# Altium footprint library RF_Misc.PcbLib: 8 footprints
Each footprint in its own frame and in the unit in brackets; x right, y up, seen from the top. Pads: shape width x height; smd on the part's side, far side on the other; paste and mask are expansions set on the pad; w line width, h text height; cw(c..) or ccw(c..) is an arc to the next point about the centre after c.
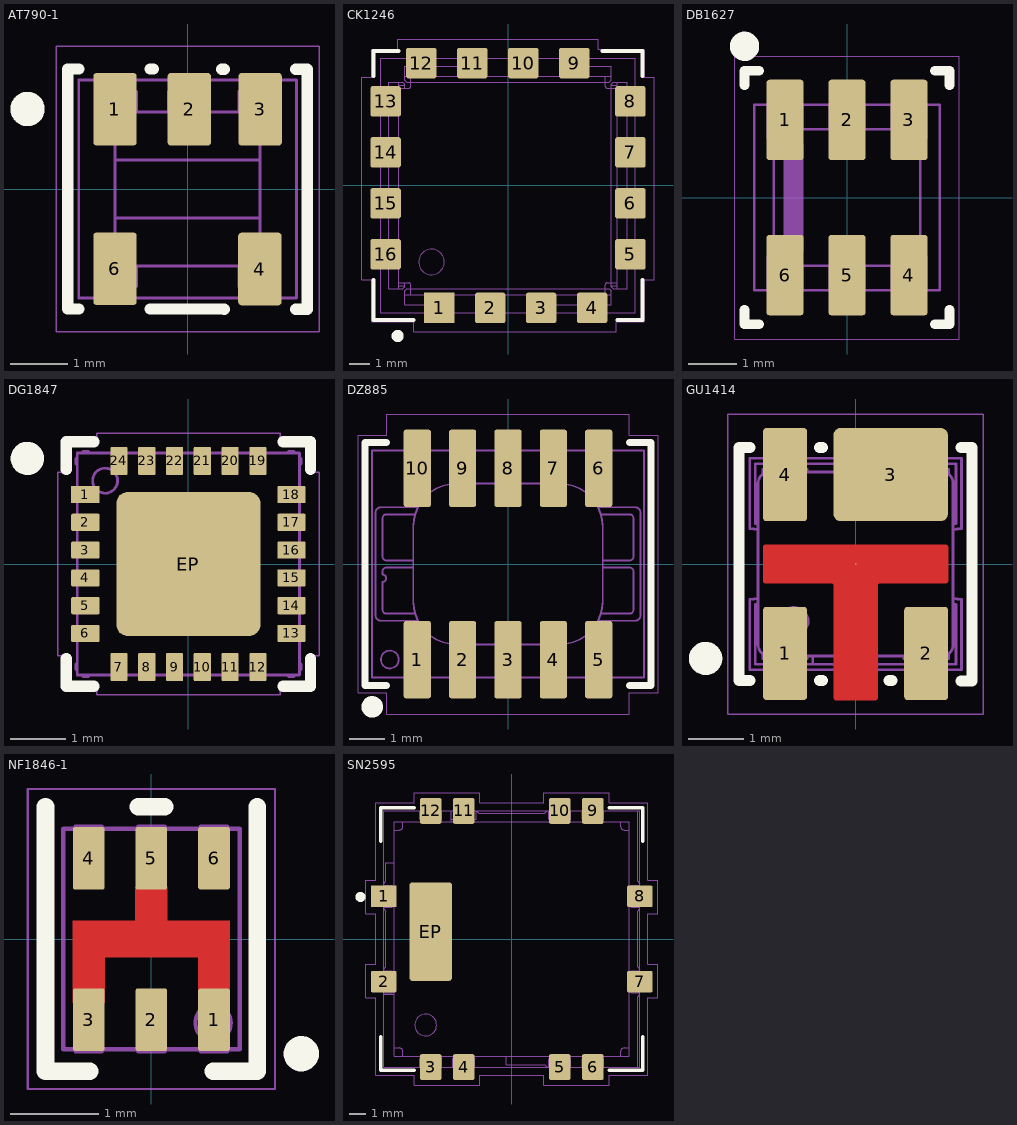
[diagram p0: the footprints below, top view; thin cyan lines are the x and y axes]

## AT790-1 [mm] "Minicircuits AT790-1 case style"
pads (5):
  rrect15% 0.76x1.27 smd mask+0.05: 1(-1.27,1.395) 2(0.03,1.395) 3(1.27,1.395) 4(1.265,-1.4) 6(-1.27,-1.395)
Top Overlay:
  circle w0.3: c-2.8,1.4 r0.15
  lines w0.2: -1.9,-2.1 -2.1,-2.1 -2.1,2.1 -1.9,2.1 ; -0.65,-2.1 0.645,-2.105 ; -0.65,2.1 -0.6,2.1 ; 0.595,2.095 0.645,2.095 ; 1.895,-2.105 2.095,-2.105 2.095,2.095 1.895,2.095
Top Courtyard:
  lines w0.025: -2.3,-2.5 -2.3,2.5 2.3,2.5 2.3,-2.5 -2.3,-2.5
Top Assembly:
  lines w0.05: -1.27,-1.145 -1.605,-1.145 -1.605,-1.705 -0.895,-1.705 -0.895,-1.35 ; -1.27,1.145 -1.605,1.145 -1.605,1.705 -0.895,1.705 -0.895,1.35 ; -0.335,1.35 -0.335,1.705 0.375,1.705 0.375,1.35 ; 0.895,-1.35 0.895,-1.705 1.605,-1.705 1.605,-1.145 1.27,-1.145 ; 0.895,1.35 0.895,1.705 1.605,1.705 1.605,1.145 1.27,1.145 ; -1.27,-0.51 -1.27,-1.35 1.27,-1.35 1.27,-0.51 ; -1.27,-0.51 1.27,-0.51 ; -1.27,-0.51 -1.27,0.51 ; -1.27,0.51 -1.27,1.35 1.27,1.35 1.27,0.51 ; -1.27,0.51 1.27,0.51 ; 1.27,-0.51 1.27,0.51 ; -1.905,-1.905 1.905,-1.905 1.905,1.905 -1.905,1.905 -1.905,-1.905
  text ".Designator" at -3.378,-0.339 h1.5
3D body "AT790-1.x_t": height 3.81, standoff -0.02, extent -1.905,-1.905 1.905,1.905

## CK1246 [mm] "Minicircuits CK1246 case style"
height 4.57
pads (16):
  rect 1.52x1.52 smd mask+0.05: 1(-3.43,-6.1)
  rrect15% 1.52x1.52 smd mask+0.05: 2(-0.89,-6.1) 3(1.65,-6.1) 4(4.19,-6.1) 5(6.1,-3.43) 6(6.1,-0.89) 7(6.1,1.65) 8(6.1,4.19) 9(3.3,6.1) 10(0.76,6.1) 11(-1.78,6.1) 12(-4.32,6.1) 13(-6.1,4.19) 14(-6.1,1.65) 15(-6.1,-0.89) 16(-6.1,-3.43)
Top Overlay:
  circle w0.3: c-5.5,-7.5 r0.15
  lines w0.2: -6.7,-4.7 -6.7,-6.7 -4.7,-6.7 ; -6.7,5.45 -6.7,6.7 -5.45,6.7 ; 4.7,6.7 6.7,6.7 6.7,5.45 ; 5.45,-6.7 6.7,-6.7 6.7,-4.7
Top Courtyard:
  lines w0.025: -7.3,-4.7 -6.8,-4.7 -6.8,-6.8 -4.7,-6.8 -4.7,-7.3 5.4,-7.3 5.4,-6.8 6.8,-6.8 6.8,-4.7 7.3,-4.7 7.3,5.4 6.8,5.4 6.8,6.8 4.5,6.8 4.5,7.3 -5.5,7.3 -5.5,6.8 -6.8,6.8 -6.8,5.4 -7.3,5.4 -7.3,-4.7
Top Assembly:
  circle w0.013: c-3.81,-3.81 r0.635
  lines w0.013: -5.95,-3.93 -6.35,-3.93 ; -5.95,-2.93 -6.35,-2.93 ; -5.95,-1.39 -6.35,-1.39 ; -5.95,-0.39 -6.35,-0.39 ; -5.95,1.15 -6.35,1.15 ; -5.95,2.15 -6.35,2.15 ; -5.95,3.69 -6.35,3.69 ; -5.95,4.69 -6.35,4.69 ; -5.45,-5.15 -5.45,5.15 ; -5.45,-5 -5.15,-5 ; -5.45,-4.85 -4.95,-4.85 cw(c-4.95,-4.95) -4.85,-4.95 -4.85,-5.45 ; -5.45,4.85 -4.95,4.85 ccw(c-4.95,4.95) -4.85,4.95 -4.85,5.45 ; -5.45,5 -5.15,5 ; -5.15,-5.45 5.15,-5.45 ; -5.15,-4.85 -5.15,-5.05 -5.25,-5.15 -5.95,-5.15 -5.95,5.15 -5.25,5.15 -5.15,5.05 -5.15,4.85 ; -5.15,5.45 5.15,5.45 ; -4.82,5.95 -4.82,6.35 ; -3.93,-5.95 -3.93,-6.35 ; -3.82,5.95 -3.82,6.35 ; -2.93,-5.95 -5.15,-5.95 -5.15,-5.25 -5.05,-5.15 5.05,-5.15 5.15,-5.25 5.15,-5.95 1.15,-5.95 ; -2.93,-5.45 -2.93,-6.35 ; -2.28,5.95 -2.28,6.35 ; -1.525,-6.35 -1.525,-5.45 ; -1.28,5.45 -1.28,6.35 ; -1.28,5.95 -5.15,5.95 -5.15,5.25 -5.05,5.15 5.05,5.15 5.15,5.25 5.15,5.95 2.8,5.95 ; -0.255,-6.35 -0.255,-5.45 ; 0.125,5.45 0.125,6.35 ; 1.15,-5.45 1.15,-6.35 ; 1.395,5.45 1.395,6.35 ; 2.15,-5.95 2.15,-6.35 ; 2.8,5.45 2.8,6.35 ; 3.69,-5.95 3.69,-6.35 ; 3.8,5.95 3.8,6.35 ; 4.69,-5.95 4.69,-6.35 ; 4.85,-5.45 4.85,-4.95 cw(c4.95,-4.95) 4.95,-4.85 5.45,-4.85 ; 4.85,5.45 4.85,4.95 ccw(c4.95,4.95) 4.95,4.85 5.45,4.85 ; 5.15,-5 5.45,-5 ; 5.15,5 5.45,5 ; 5.45,-5.15 5.45,5.15 ; 5.95,-3.93 6.35,-3.93 ; 5.95,-2.93 6.35,-2.93 ; 5.95,-1.39 6.35,-1.39 ; 5.95,-0.39 6.35,-0.39 ; 5.95,1.15 6.35,1.15 ; 5.95,2.15 6.35,2.15 ; 5.95,3.69 6.35,3.69 ; 5.95,4.69 6.35,4.69 ; -6.35,-3.93 -6.05,-3.63 -6.05,-3.23 -6.35,-2.93 ; -6.35,-3.93 -6.35,-6.35 -3.93,-6.35 ; -6.35,-2.93 -6.35,-1.39 ; -6.35,-1.39 -6.05,-1.09 -6.05,-0.69 -6.35,-0.39 ; -6.35,-0.39 -6.35,1.15 ; -6.35,1.15 -6.05,1.45 -6.05,1.85 -6.35,2.15 ; -6.35,2.15 -6.35,3.69 ; -6.35,3.69 -6.05,3.99 -6.05,4.39 -6.35,4.69 ; -6.35,4.69 -6.35,6.35 -4.82,6.35 ; -4.82,6.35 -4.52,6.05 -4.12,6.05 -3.82,6.35 ; -3.93,-6.35 -3.63,-6.05 -3.23,-6.05 -2.93,-6.35 ; -3.82,6.35 -2.28,6.35 ; -2.93,-6.35 -1.39,-6.35 -1.09,-6.05 -0.69,-6.05 -0.39,-6.35 1.15,-6.35 ; -2.28,6.35 -1.98,6.05 -1.58,6.05 -1.28,6.35 ; -1.28,6.35 0.26,6.35 0.56,6.05 0.96,6.05 1.26,6.35 2.8,6.35 ; 1.15,-6.35 1.45,-6.05 1.85,-6.05 2.15,-6.35 ; 2.15,-6.35 3.69,-6.35 ; 2.8,6.35 3.1,6.05 3.5,6.05 3.8,6.35 ; 3.69,-6.35 3.99,-6.05 4.39,-6.05 4.69,-6.35 ; 3.8,6.35 6.35,6.35 6.35,4.69 ; 4.69,-6.35 6.35,-6.35 6.35,-3.93 ; 6.35,-3.93 6.05,-3.63 6.05,-3.23 6.35,-2.93 ; 6.35,-2.93 6.35,-1.39 ; 6.35,-1.39 6.05,-1.09 6.05,-0.69 6.35,-0.39 ; 6.35,-0.39 6.35,1.15 ; 6.35,1.15 6.05,1.45 6.05,1.85 6.35,2.15 ; 6.35,2.15 6.35,3.69 ; 6.35,3.69 6.05,3.99 6.05,4.39 6.35,4.69 ; 5.15,-5.05 5.15,5.05 5.25,5.15 5.95,5.15 5.95,-5.15 5.25,-5.15 5.15,-5.05
  text ".Designator" at -6.763,-0.679 h3
3D body "CK1246.x_t": height 4.57, standoff -0.02, extent -6.35,-6.35 6.35,6.35

## DB1627 [mm] "Minicircuits DB1627 case style"
pads (6):
  rrect15% 0.76x1.65 smd mask+0.05: 1(-1.27,1.59) 2(0,1.59) 3(1.27,1.59) 4(1.27,-1.59) 5(0,-1.59) 6(-1.27,-1.59)
Top Overlay:
  circle w0.3: c-2.1,3.1 r0.15
  lines w0.2: -2.1,-2.3 -2.1,-2.6 -1.8,-2.6 ; -2.1,2.3 -2.1,2.6 -1.8,2.6 ; 1.8,-2.6 2.1,-2.6 2.1,-2.3 ; 1.8,2.6 2.1,2.6 2.1,2.3
Top Courtyard:
  lines w0.025: -2.3,-2.9 2.3,-2.9 2.3,2.9 -2.3,2.9 -2.3,-2.9
Top Assembly:
  region: -1.3,-1.1 -0.9,-1.1 -0.9,1.1 -1.3,1.1
  lines w0.05: -1.626,-1.905 -1.905,-1.905 -1.905,1.905 -1.626,1.905 ; -1.501,-1.213 -1.626,-1.213 -1.626,-1.923 -0.914,-1.923 -0.914,-1.4 ; -1.501,1.213 -1.626,1.213 -1.626,1.923 -0.914,1.923 -0.914,1.4 ; -0.914,-1.905 -0.356,-1.905 ; -0.914,1.905 -0.356,1.905 ; -0.356,-1.4 -0.356,-1.923 0.356,-1.923 0.356,-1.4 ; -0.356,1.4 -0.356,1.923 0.356,1.923 0.356,1.4 ; 0.356,-1.905 0.914,-1.905 ; 0.356,1.905 0.914,1.905 ; 0.914,-1.4 0.914,-1.923 1.626,-1.923 1.626,-1.213 1.501,-1.213 ; 0.914,1.4 0.914,1.923 1.626,1.923 1.626,1.213 1.501,1.213 ; 1.626,-1.905 1.905,-1.905 1.905,1.905 1.626,1.905 ; -1.5,-1.4 1.5,-1.4 1.5,1.4 -1.5,1.4 -1.5,-1.4
  text "1" at -1.346,1.537 h0.5
  text ".Designator" at -4.511,-0.453 h2
3D body "DB1627.x_t": height 4.09, standoff -0.02, extent -1.905,-2.03 1.905,2.03

## DG1847 [mm] "Minicircuits DG1847 case style"
height 1
pads (25):
  rect 0.51x0.31 smd mask+0.05: 1(-1.855,1.25)
  rrect15% 0.51x0.31 smd mask+0.05: 2(-1.855,0.75) 3(-1.855,0.25) 4(-1.855,-0.25) 5(-1.855,-0.75) 6(-1.855,-1.25) 13(1.855,-1.25) 14(1.855,-0.75) 15(1.855,-0.25) 16(1.855,0.25) 17(1.855,0.75) 18(1.855,1.25)
  rrect15% 0.31x0.51 smd mask+0.05: 7(-1.25,-1.855) 8(-0.75,-1.855) 9(-0.25,-1.855) 10(0.25,-1.855) 11(0.75,-1.855) 12(1.25,-1.855) 19(1.25,1.855) 20(0.75,1.855) 21(0.25,1.855) 22(-0.25,1.855) 23(-0.75,1.855) 24(-1.25,1.855)
  rrect15% 2.59x2.59 smd mask+0.05: EP(0,0)
Top Overlay:
  circle w0.3: c-2.9,1.9 r0.15
  lines w0.2: -2.2,-1.7 -2.2,-2.2 -1.7,-2.2 ; -2.2,1.7 -2.2,2.2 -1.7,2.2 ; 1.7,-2.2 2.2,-2.2 2.2,-1.7 ; 1.7,2.2 2.2,2.2 2.2,1.7
Top Courtyard:
  lines w0.025: -2.35,-1.65 -2.2,-1.65 -2.2,-2.2 -1.65,-2.2 -1.65,-2.35 1.65,-2.35 1.65,-2.2 2.2,-2.2 2.2,-1.65 2.35,-1.65 2.35,1.65 2.2,1.65 2.2,2.2 1.65,2.2 1.65,2.35 -1.65,2.35 -1.65,2.2 -2.2,2.2 -2.2,1.65 -2.35,1.65 -2.35,-1.65
Top Assembly:
  circle w0.05: c-1.5,1.5 r0.225
  lines w0.05: -2,-1.9 -2.025,-1.9 -2.025,-1.8 -2,-1.8 ; -2,-1.365 -2.025,-1.365 -2.025,-1.135 -2,-1.135 ; -2,-0.865 -2.025,-0.865 -2.025,-0.635 -2,-0.635 ; -2,-0.365 -2.025,-0.365 -2.025,-0.135 -2,-0.135 ; -2,0.135 -2.025,0.135 -2.025,0.365 -2,0.365 ; -2,0.635 -2.025,0.635 -2.025,0.865 -2,0.865 ; -2,1.135 -2.025,1.135 -2.025,1.365 -2,1.365 ; -2,1.8 -2.025,1.8 -2.025,1.9 -2,1.9 ; -1.9,-2 -1.9,-2.025 -1.8,-2.025 -1.8,-2 ; -1.9,2 -1.9,2.025 -1.8,2.025 -1.8,2 ; -1.365,-2 -1.365,-2.025 -1.135,-2.025 -1.135,-2 ; -1.365,2 -1.365,2.025 -1.135,2.025 -1.135,2 ; -0.865,-2 -0.865,-2.025 -0.635,-2.025 -0.635,-2 ; -0.865,2 -0.865,2.025 -0.635,2.025 -0.635,2 ; -0.365,-2 -0.365,-2.025 -0.135,-2.025 -0.135,-2 ; -0.365,2 -0.365,2.025 -0.135,2.025 -0.135,2 ; 0.135,-2 0.135,-2.025 0.365,-2.025 0.365,-2 ; 0.135,2 0.135,2.025 0.365,2.025 0.365,2 ; 0.635,-2 0.635,-2.025 0.865,-2.025 0.865,-2 ; 0.635,2 0.635,2.025 0.865,2.025 0.865,2 ; 1.135,-2 1.135,-2.025 1.365,-2.025 1.365,-2 ; 1.135,2 1.135,2.025 1.365,2.025 1.365,2 ; 1.8,-2 1.8,-2.025 1.9,-2.025 1.9,-2 ; 1.8,2 1.8,2.025 1.9,2.025 1.9,2 ; 2,-1.9 2.025,-1.9 2.025,-1.8 2,-1.8 ; 2,-1.365 2.025,-1.365 2.025,-1.135 2,-1.135 ; 2,-0.865 2.025,-0.865 2.025,-0.635 2,-0.635 ; 2,-0.365 2.025,-0.365 2.025,-0.135 2,-0.135 ; 2,0.135 2.025,0.135 2.025,0.365 2,0.365 ; 2,0.635 2.025,0.635 2.025,0.865 2,0.865 ; 2,1.135 2.025,1.135 2.025,1.365 2,1.365 ; 2,1.8 2.025,1.8 2.025,1.9 2,1.9 ; -2,-2 -2,2 2,2 2,-2 -2,-2
  text ".Designator" at -4.511,-0.453 h2
3D body "DG1847.x_t": height 1.05, standoff 0, extent -2.025,-2.025 2.025,2.025

## DZ885 [mm] "Minicircuits DZ885 case style"
height 2.16
pads (10):
  rrect15% 0.76x2.16 smd mask+0.05: 1(-2.54,-2.68) 2(-1.27,-2.68) 3(0,-2.68) 4(1.27,-2.68) 5(2.54,-2.68) 6(2.54,2.68) 7(1.27,2.68) 8(0,2.68) 9(-1.27,2.68) 10(-2.54,2.68)
Top Overlay:
  circle w0.3: c-3.8,-4 r0.15
  lines w0.2: -3.4,-3.4 -4,-3.4 -4,3.4 -3.4,3.4 ; 3.4,-3.4 4,-3.4 4,3.4 3.4,3.4
Top Courtyard:
  lines w0.025: -4.2,-3.6 -3.4,-3.6 -3.4,-4.2 3.4,-4.2 3.4,-3.6 4.2,-3.6 4.2,3.6 3.4,3.6 3.4,4.2 -3.4,4.2 -3.4,3.6 -4.2,3.6 -4.2,-3.6
Top Assembly:
  circle w0.05: c-3.31,-2.675 r0.25
  lines w0.05: -2.69,-3.175 -2.69,-3.38 -2.39,-3.38 -2.39,-3.175 ; -2.69,3.175 -2.69,3.38 -2.39,3.38 -2.39,3.175 ; -2.65,-0.1 -3.41,-0.1 ccw(c-3.41,-0.2) -3.51,-0.2 -3.51,-0.3 cw(c-3.51,-0.4) -3.51,-0.5 -3.51,-1.288 ccw(c-3.41,-1.288) -3.41,-1.388 -2.61,-1.388 ccw(c-2.61,-1.288) -2.602,-1.387 ; -2.65,0.1 -3.41,0.1 cw(c-3.41,0.2) -3.51,0.2 -3.51,1.288 cw(c-3.41,1.288) -3.41,1.388 -2.61,1.388 cw(c-2.61,1.288) -2.602,1.387 ; -2.523,-1.587 -3.56,-1.587 cw(c-3.56,-1.438) -3.71,-1.438 -3.71,1.438 cw(c-3.56,1.438) -3.56,1.587 -2.523,1.587 ; -1.42,-3.175 -1.42,-3.38 -1.12,-3.38 -1.12,-3.175 ; -1.42,3.175 -1.42,3.38 -1.12,3.38 -1.12,3.175 ; -0.15,-3.175 -0.15,-3.38 0.15,-3.38 0.15,-3.175 ; -0.15,3.175 -0.15,3.38 0.15,3.38 0.15,3.175 ; 1.12,-3.175 1.12,-3.38 1.42,-3.38 1.42,-3.175 ; 1.12,3.175 1.12,3.38 1.42,3.38 1.42,3.175 ; 2.39,-3.175 2.39,-3.38 2.69,-3.38 2.69,-3.175 ; 2.39,3.175 2.39,3.38 2.69,3.38 2.69,3.175 ; 2.523,-1.587 3.56,-1.587 ccw(c3.56,-1.438) 3.71,-1.438 3.71,1.438 ccw(c3.56,1.438) 3.56,1.587 2.523,1.587 ; 2.602,-1.387 ccw(c2.61,-1.288) 2.61,-1.388 3.41,-1.388 ccw(c3.41,-1.288) 3.51,-1.288 3.51,-0.2 ccw(c3.41,-0.2) 3.41,-0.1 2.65,-0.1 ; 2.602,1.387 cw(c2.61,1.288) 2.61,1.388 3.41,1.388 cw(c3.41,1.288) 3.51,1.288 3.51,0.2 cw(c3.41,0.2) 3.41,0.1 2.65,0.1 ; -3.81,-3.175 -3.81,3.175 3.81,3.175 3.81,-3.175 -3.81,-3.175 ; -2.65,-1.05 ccw(c-1.45,-1.05) -1.45,-2.25 1.45,-2.25 ccw(c1.45,-1.05) 2.65,-1.05 2.65,1.05 ccw(c1.45,1.05) 1.45,2.25 -1.45,2.25 ccw(c-1.45,1.05) -2.65,1.05 -2.65,-1.05
  text ".Designator" at -4.511,-0.453 h2
3D body "DZ885.x_t": height 2.17, standoff 0, extent -3.81,-3.38 3.81,3.38

## GU1414 [mm] "Minicircuits GU1414 case style"
height 3.56
pads (5):
  rrect15% 0.79x1.68 smd paste-2 mask+0.05: 1(-1.27,-1.61) 2(1.27,-1.61)
  rrect15% 2.06x1.68 smd paste-2 mask+0.05: 3(0.63,1.61)
  rrect15% 0.79x1.68 smd paste-3 mask+0.05: 4(-1.27,1.61)
  round 0.025 smd paste-2 mask+0.05: 5(0,0)
Top Layer:
  region: -1.665,0.305 -1.665,-0.305 -1.665,-0.313 -1.659,-0.328 -1.648,-0.339 -1.633,-0.345 -1.625,-0.345 -0.435,-0.345 -0.427,-0.346 -0.413,-0.352 -0.402,-0.363 -0.396,-0.377 -0.395,-0.385 -0.395,-2.41 -0.395,-2.418 -0.389,-2.433 -0.378,-2.444 -0.363,-2.45 -0.355,-2.45 0.355,-2.45 0.363,-2.45 0.378,-2.444 0.389,-2.433 0.395,-2.418 0.395,-2.41 0.395,-0.385 0.396,-0.377 0.402,-0.363 0.413,-0.352 0.427,-0.346 0.435,-0.345 1.625,-0.345 1.633,-0.345 1.648,-0.339 1.659,-0.328 1.665,-0.313 1.665,-0.305 1.665,0.305 1.665,0.313 1.659,0.328 1.648,0.339 1.633,0.345 1.625,0.345 -1.625,0.345 -1.633,0.345 -1.648,0.339 -1.659,0.328 -1.665,0.313
Top Overlay:
  circle w0.3: c-2.7,-1.7 r0.15
  lines w0.2: -1.9,-2.1 -2.1,-2.1 -2.1,2.1 -1.9,2.1 ; -0.65,-2.1 -0.6,-2.1 ; -0.65,2.1 -0.6,2.1 ; 0.6,-2.1 0.65,-2.1 ; 1.895,-2.105 2.095,-2.105 2.095,2.095 1.895,2.095
Top Paste:
  drawing of 15 lines, arcs and shapes, not listed
Top Courtyard:
  lines w0.025: -2.3,-2.7 -2.3,2.7 2.3,2.7 2.3,-2.7 -2.3,-2.7
Top Assembly:
  circle w0.05: c-1.105,-1.03 r0.25
  lines w0.05: -1.755,-0.72 -1.805,-0.728 -1.805,-1.805 -1.644,-1.805 cw(c-1.27,-2.055) -1.553,-1.705 ; -1.755,-0.617 cw(c-1.905,0) -1.905,-0.635 -1.905,-1.905 -1.586,-1.905 cw(c-1.27,-2.055) -0.954,-1.905 0.954,-1.905 cw(c1.27,-2.055) 1.586,-1.905 1.905,-1.905 1.905,-0.635 cw(c1.905,0) 1.755,-0.617 ; -1.755,0.617 ccw(c-1.905,0) -1.905,0.635 -1.905,1.905 -1.586,1.905 ccw(c-1.27,2.055) -0.954,1.905 0.954,1.905 ccw(c1.27,2.055) 1.586,1.905 1.905,1.905 1.905,0.635 ccw(c1.905,0) 1.755,0.617 ; -1.755,0.72 -1.805,0.728 -1.805,1.805 -1.644,1.805 ccw(c-1.27,2.055) -1.553,1.705 ; -1.67,-1.619 -1.67,-1.705 -1.553,-1.705 ; -1.67,1.619 -1.67,1.705 -1.553,1.705 ; -1.49,-1.783 -1.553,-1.705 ; -1.49,1.783 -1.553,1.705 ; -1.05,-1.783 -0.987,-1.705 ; -1.05,1.783 -0.987,1.705 ; -0.87,-1.655 -0.87,-1.705 -0.987,-1.705 ; -0.87,1.655 -0.87,1.705 -0.987,1.705 ; -0.77,-1.805 -0.77,-1.655 ; -0.17,-1.805 -0.17,-1.655 ; 0.87,-1.655 0.87,-1.705 0.987,-1.705 ; 0.87,1.655 0.87,1.705 0.987,1.705 ; 1.05,-1.783 0.987,-1.705 ; 1.05,1.783 0.987,1.705 ; 1.49,-1.783 1.553,-1.705 ; 1.49,1.783 1.553,1.705 ; 1.67,-1.619 1.67,-1.705 1.553,-1.705 ; 1.67,1.619 1.67,1.705 1.553,1.705 ; 1.755,-0.72 1.805,-0.728 1.805,-1.805 1.644,-1.805 ccw(c1.27,-2.055) 1.553,-1.705 ; 1.755,0.72 1.805,0.728 1.805,1.805 1.644,1.805 cw(c1.27,2.055) 1.553,1.705 ; -0.987,-1.705 cw(c-1.27,-2.055) -0.896,-1.805 0.896,-1.805 cw(c1.27,-2.055) 0.987,-1.705 ; -0.987,1.705 ccw(c-1.27,2.055) -0.896,1.805 0.896,1.805 ccw(c1.27,2.055) 0.987,1.705 ; -1.755,-1.455 ccw(c-1.555,-1.455) -1.555,-1.655 1.555,-1.655 ccw(c1.555,-1.455) 1.755,-1.455 1.755,1.455 ccw(c1.555,1.455) 1.555,1.655 -1.555,1.655 ccw(c-1.555,1.455) -1.755,1.455 -1.755,-1.455
  text ".Designator" at -3.378,-0.339 h1.5
3D body "GU1414.x_t": height 3.56, standoff -0.01, extent -1.905,-1.905 1.905,1.905

## NF1846-1 [mm] "Minicircuits NF1846-1 case style"
height 0.89
pads (6):
  rrect15% 0.36x0.71 smd mask+0.05: 1(0.71,-0.915) 2(0,-0.915) 3(-0.71,-0.915) 4(-0.71,0.915) 5(0,0.915) 6(0.71,0.915)
Top Layer:
  region: -0.89,0.205 -0.89,-0.725 -0.53,-0.725 -0.53,-0.205 0.53,-0.205 0.53,-0.725 0.89,-0.725 0.89,-0.2 0.89,0.205 0.18,0.205 0.18,0.59 -0.18,0.59 -0.18,0.205
Top Overlay:
  circle w0.2: c1.7,-1.3 r0.1
  lines w0.2: -1.2,1.5 -1.2,-1.5 -0.7,-1.5 ; -0.15,1.5 0.15,1.5 ; 0.7,-1.5 1.2,-1.5 1.2,1.5
Top Paste:
  region: -0.53,-0.36 -0.89,-0.36 -0.89,0.205 -0.53,0.205
  region: 0.53,-0.36 0.89,-0.36 0.89,0.205 0.53,0.205
  region: -0.33,0.205 -0.33,-0.205 0.33,-0.205 0.33,0.205
Top Solder:
  region: -0.94,0.255 -0.94,-0.6 -0.48,-0.6 -0.48,-0.255 0.48,-0.255 0.48,-0.625 0.94,-0.625 0.94,0.255 0.23,0.255 0.23,0.75 -0.23,0.75 -0.23,0.255
Top Courtyard:
  lines w0.025: -1.4,-1.7 -1.4,1.7 1.4,1.7 1.4,-1.7 -1.4,-1.7
Top Assembly:
  circle w0.05: c0.7,-0.95 r0.2
  lines w0.05: -0.86,-1.25 -0.86,-1.27 -0.56,-1.27 -0.56,-1.25 ; -0.86,1.25 -0.86,1.27 -0.56,1.27 -0.56,1.25 ; -0.15,-1.25 -0.15,-1.27 0.15,-1.27 0.15,-1.25 ; -0.15,1.25 -0.15,1.27 0.15,1.27 0.15,1.25 ; 0.56,-1.25 0.56,-1.27 0.86,-1.27 0.86,-1.25 ; 0.56,1.25 0.56,1.27 0.86,1.27 0.86,1.25 ; -1,-1.25 -1,1.25 1,1.25 1,-1.25 -1,-1.25
  text ".Designator" at 0.339,-3.378 h1.5
3D body "NF1846-1.x_t": height 0.89, standoff -0.02, extent -1,-1.27 1,1.27

## SN2595 [mm] "Minicircuits SN2595 case style"
height 3.81
pads (13):
  rect 1.53x1.28 smd mask+0.05: 1(-7.62,2.54)
  rrect15% 1.53x1.28 smd mask+0.05: 2(-7.62,-2.54) 7(7.62,-2.54) 8(7.62,2.54)
  rrect15% 1.28x1.53 smd mask+0.05: 3(-4.825,-7.62) 4(-2.855,-7.62) 5(2.855,-7.62) 6(4.825,-7.62) 9(4.825,7.62) 10(2.855,7.62) 11(-2.855,7.62) 12(-4.825,7.62)
  rrect15% 2.54x5.87 smd mask+0.05: EP(-4.825,0.44)
Top Overlay:
  circle w0.3: c-9,2.5 r0.15
  lines w0.2: -7.8,-5.8 -7.8,-7.8 -5.8,-7.8 ; -7.8,5.8 -7.8,7.8 -5.8,7.8 ; 5.8,-7.8 7.8,-7.8 7.8,-5.8 ; 5.8,7.8 7.8,7.8 7.8,5.8
Top Courtyard:
  lines w0.025: -8.7,-3.5 -8.7,-1.5 -8.1,-1.5 -8.1,1.5 -8.7,1.5 -8.7,3.5 -8.1,3.5 -8.1,8.1 -5.8,8.1 -5.8,8.7 -1.9,8.7 -1.9,8.1 1.9,8.1 1.9,8.7 5.8,8.7 5.8,8.1 8.1,8.1 8.1,3.5 8.7,3.5 8.7,1.5 8.1,1.5 8.1,-1.5 8.7,-1.5 8.7,-3.5 8.1,-3.5 8.1,-8.1 5.8,-8.1 5.8,-8.7 1.9,-8.7 1.9,-8.1 -1.9,-8.1 -1.9,-8.7 -5.8,-8.7 -5.8,-8.1 -8.1,-8.1 -8.1,-3.5 -8.7,-3.5
Top Assembly:
  circle w0.05: c-5.12,-5.12 r0.65
  lines w0.05: -7.62,-3.29 -6.985,-3.29 ; -7.62,-3.19 -7.12,-3.19 -7.12,-1.89 -7.62,-1.89 ; -7.62,-1.79 -7.485,-1.655 -7.485,1.655 -7.62,1.79 ; -7.62,1.89 -7.12,1.89 -7.12,3.19 -7.62,3.19 ; -7.62,3.29 -7.485,3.425 -7.485,4.54 -6.985,4.54 ; -6.985,-6.485 -6.685,-6.485 cw(c-6.685,-6.685) -6.485,-6.685 -6.485,-6.985 ; -6.985,6.485 -6.685,6.485 ccw(c-6.685,6.685) -6.485,6.685 -6.485,6.985 ; -5.48,-7.62 -5.48,-7.12 ; -5.48,7.62 -5.48,7.12 ; -5.345,-6.985 -5.48,-7.12 ; -5.345,6.985 -5.48,7.12 ; -4.315,-6.985 -4.18,-7.12 ; -4.315,6.985 -4.18,7.12 ; -4.18,-7.62 -4.18,-7.12 ; -4.18,7.62 -4.18,7.12 ; -3.61,6.985 -3.61,7.62 ; -3.61,7.12 -2.11,7.12 -2.11,7.62 -1.975,7.485 1.975,7.485 2.11,7.62 ; -3.51,-7.62 -3.51,-7.12 ; -3.375,-6.985 -3.51,-7.12 ; -2.345,-6.985 -2.21,-7.12 ; -2.21,-7.62 -2.21,-7.12 ; -0.34,-6.985 -0.34,-7.485 1.975,-7.485 2.11,-7.62 ; 2.21,-7.62 2.21,-7.12 3.51,-7.12 3.51,-7.62 ; 2.21,7.62 2.21,7.12 3.51,7.12 3.51,7.62 ; 4.18,-7.62 4.18,-7.12 5.48,-7.12 5.48,-7.62 ; 4.18,7.62 4.18,7.12 5.48,7.12 5.48,7.62 ; 6.485,-6.985 6.485,-6.685 cw(c6.685,-6.685) 6.685,-6.485 6.985,-6.485 ; 6.485,6.985 6.485,6.685 ccw(c6.685,6.685) 6.685,6.485 6.985,6.485 ; 7.485,-7.62 7.485,-3.425 7.62,-3.29 ; 7.485,7.62 7.485,3.425 7.62,3.29 ; 7.62,-3.19 7.12,-3.19 7.12,-1.89 7.62,-1.89 ; 7.62,-1.79 7.485,-1.655 7.485,1.655 7.62,1.79 ; 7.62,1.89 7.12,1.89 7.12,3.19 7.62,3.19 ; -5.48,-7.12 -4.18,-7.12 ; -5.48,7.12 -4.18,7.12 ; -3.51,-7.12 -2.21,-7.12 ; -7.62,-7.62 -7.62,-2.921 ccw(c-7.62,-2.54) -7.62,-2.159 -7.62,2.159 ccw(c-7.62,2.54) -7.62,2.921 -7.62,7.62 -5.211,7.62 ccw(c-4.83,7.62) -4.449,7.62 -3.241,7.62 ccw(c-2.86,7.62) -2.479,7.62 2.479,7.62 ccw(c2.86,7.62) 3.241,7.62 4.449,7.62 ccw(c4.83,7.62) 5.211,7.62 7.62,7.62 7.62,2.921 ccw(c7.62,2.54) 7.62,2.159 7.62,-2.159 ccw(c7.62,-2.54) 7.62,-2.921 7.62,-7.62 5.211,-7.62 ccw(c4.83,-7.62) 4.449,-7.62 3.241,-7.62 ccw(c2.86,-7.62) 2.479,-7.62 -2.479,-7.62 ccw(c-2.86,-7.62) -3.241,-7.62 -4.449,-7.62 ccw(c-4.83,-7.62) -5.211,-7.62 -7.62,-7.62 ; -6.985,-6.985 -6.985,6.985 6.985,6.985 6.985,-6.985 -6.985,-6.985
  text ".Designator" at -6.763,-0.679 h3
3D body "SN2595_X_T.x_t": height 3.83, standoff 0, extent -7.62,-7.62 7.62,7.62